# Altium schematic symbol library Connector - Header.SchLib: 15 symbols
Pins are listed as number, name and electrical type; pins without a type are passive.

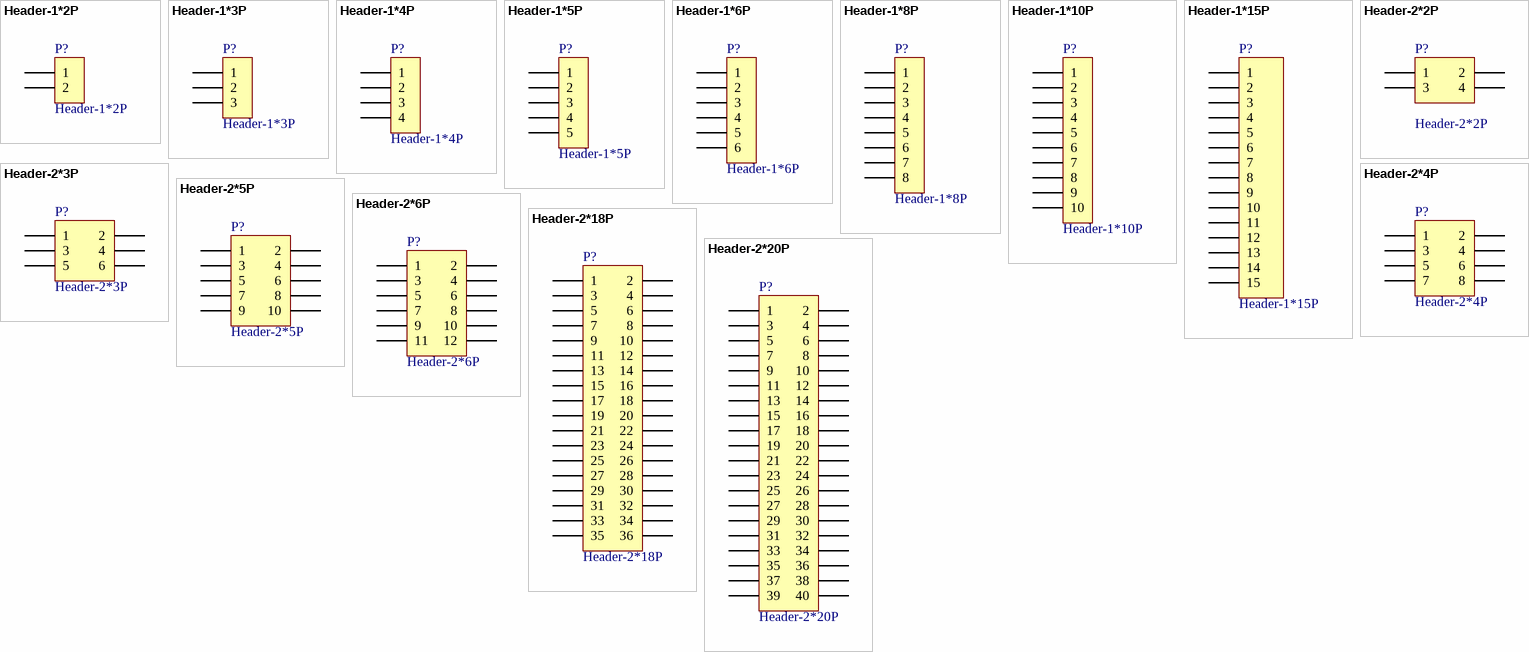
[diagram p0: symbols Header-1*2P to Header-2*20P]

## Header-1*2P
designator P?
Header, 2-Pin; LatestRevisionDate: 17-Jul-2002; LatestRevisionNote: Re-released for DXP Platform.; Publisher: Altium Limited
footprint HEADER_1*2P_FEM_2.54_8.5H (Connector; Header; 2 Position)
footprint HEADER_1*2P_M_2.54_11.5H (Connector; Header; 2 Position)
pins: 1, 2

## Header-1*3P
designator P?
Header, 3-Pin; LatestRevisionDate: 17-Jul-2002; LatestRevisionNote: Re-released for DXP Platform.; Publisher: Altium Limited
footprint HEADER_1*3P_FEM_2.54_8.5H (Connector; Header; 3 Position)
footprint HEADER_1*3P_M_2.54_11.5H (Connector; Header; 3 Position)
pins: 1, 2, 3

## Header-1*4P
designator P?
Header, 4-Pin; LatestRevisionDate: 17-Jul-2002; LatestRevisionNote: Re-released for DXP Platform.; Publisher: Altium Limited
footprint HEADER_1*4P_FEM_2.54_8.5H
footprint HEADER_1*4P_M_2.54_11.5H
pins: 1, 2, 3, 4

## Header-1*5P
designator P?
Header, 5-Pin; LatestRevisionDate: 17-Jul-2002; LatestRevisionNote: Re-released for DXP Platform.; Publisher: Altium Limited
footprint HEADER_1*5P_FEM_2.54_8.5H (Connector; Header; 5 Position)
footprint HEADER_1*5P_M_2.54_11.5H (Connector; Header; 5 Position)
pins: 1, 2, 3, 4, 5

## Header-1*6P
designator P?
Header, 6-Pin; LatestRevisionDate: 17-Jul-2002; LatestRevisionNote: Re-released for DXP Platform.; Publisher: Altium Limited
footprint HEADER_1*6P_FEM_2.54_8.5H (Connector; Header; 6 Position)
footprint HEADER_1*6P_FEM_2.54_8.5H (Connector; Header; 6 Position)
footprint HEADER_1*6P_M_2.54_SMT_9.2H_5W
pins: 1, 2, 3, 4, 5, 6

## Header-1*8P
designator P?
Header, 8-Pin; LatestRevisionDate: 17-Jul-2002; LatestRevisionNote: Re-released for DXP Platform.; Publisher: Altium Limited
footprint HEADER_1*8P_FEM_2.54_8.5H (Connector; Header; 8 Position)
footprint HEADER_1*8P_M_2.54_11.5H (Connector; Header; 8 Position)
footprint HEADER_1*8P_M_2.54_SMT_9.2H_5W
pins: 1, 2, 3, 4, 5, 6, 7, 8

## Header-1*10P
designator P?
Header, 10-Pin; LatestRevisionDate: 17-Jul-2002; LatestRevisionNote: Re-released for DXP Platform.; Publisher: Altium Limited
footprint HEADER_1*10P_FEM_2.54_8.5H (Connector; Header; 10 Position)
footprint HEADER_1*10P_M_2.54_11.5H (Connector; Header; 10 Position)
footprint HEADER_1*10P_M_2.54_SMT_9.2H_5W
pins: 1, 2, 3, 4, 5, 6, 7, 8, 9, 10

## Header-1*15P
designator P?
Header-15P; LatestRevisionDate: 17-Jul-2002; LatestRevisionNote: Re-released for DXP Platform.; Publisher: Altium Limited
footprint HEADER_1*15P_M_2.54_11.5H (Connector; Header; 15 Position)
pins: 1, 2, 3, 4, 5, 6, 7, 8, 9, 10, 11, 12, 13, 14, 15

## Header-2*2P
designator P?
Header, 2*2-Pin, Dual row; LatestRevisionDate: 17-Jul-2002; LatestRevisionNote: Re-released for DXP Platform.; Publisher: Altium Limited
footprint HEADER_2*2P_M_2.54_11.5H (Connector; Header; 2x2 Position)
pins: 1, 2, 3, 4

## Header-2*3P
designator P?
Header, 3-Pin, Dual row; LatestRevisionDate: 17-Jul-2002; LatestRevisionNote: Re-released for DXP Platform.; Publisher: Altium Limited
footprint HEADER_2*3P_M_2.54_11.5H (Connector; Header; 3x2 Position)
pins: 1, 2, 3, 4, 5, 6

## Header-2*4P
designator P?
Header, 4-Pin, Dual row; LatestRevisionDate: 17-Jul-2002; LatestRevisionNote: Re-released for DXP Platform.; Publisher: Altium Limited
footprint HEADER_2*4P_M_2.54_11.5H (Connector; Header; 4x2 Position)
pins: 1, 2, 3, 4, 5, 6, 7, 8

## Header-2*5P
designator P?
Header, 5-Pin, Dual row; LatestRevisionDate: 17-Jul-2002; LatestRevisionNote: Re-released for DXP Platform.; Publisher: Altium Limited
footprint HEADER_2*5P_M_2.54_11.5H (Connector; Header; 5x2 Position)
footprint HEADER_2*5P_M_2.54_SMT_180D
pins: 1, 2, 3, 4, 5, 6, 7, 8, 9, 10

## Header-2*6P
designator P?
Header, 6-Pin, Dual row; LatestRevisionDate: 17-Jul-2002; LatestRevisionNote: Re-released for DXP Platform.; Publisher: Altium Limited
footprint HEADER_2*6P_M_2.54_11.5H (Connector; Header; 6x2 Position)
pins: 1, 2, 3, 4, 5, 6, 7, 8, 9, 10, 11, 12

## Header-2*18P
designator P?
Header, 18-Pin, Dual row; LatestRevisionDate: 17-Jul-2002; LatestRevisionNote: Re-released for DXP Platform.; Publisher: Altium Limited
footprint HEADER_2*18P_M_2.54_11.5H (Connector; Header; 18x2 Position)
pins: 1, 2, 3, 4, 5, 6, 7, 8, 9, 10, 11, 12, 13, 14, 15, 16, 17, 18, 19, 20, 21, 22, 23, 24, 25, 26, 27, 28, 29, 30, 31, 32, 33, 34, 35, 36

## Header-2*20P
designator P?
Header, 20-Pin, Dual row; LatestRevisionDate: 17-Jul-2002; LatestRevisionNote: Re-released for DXP Platform.; Publisher: Altium Limited
footprint HEADER_2*20P_FEM_2.54_8.5H
pins: 1, 2, 3, 4, 5, 6, 7, 8, 9, 10, 11, 12, 13, 14, 15, 16, 17, 18, 19, 20, 21, 22, 23, 24, 25, 26, 27, 28, 29, 30, 31, 32, 33, 34, 35, 36, 37, 38, 39, 40